# Altium schematic symbol library ArduMan_Components.SchLib: 13 symbols
Pins are listed as number, name and electrical type; pins without a type are passive.

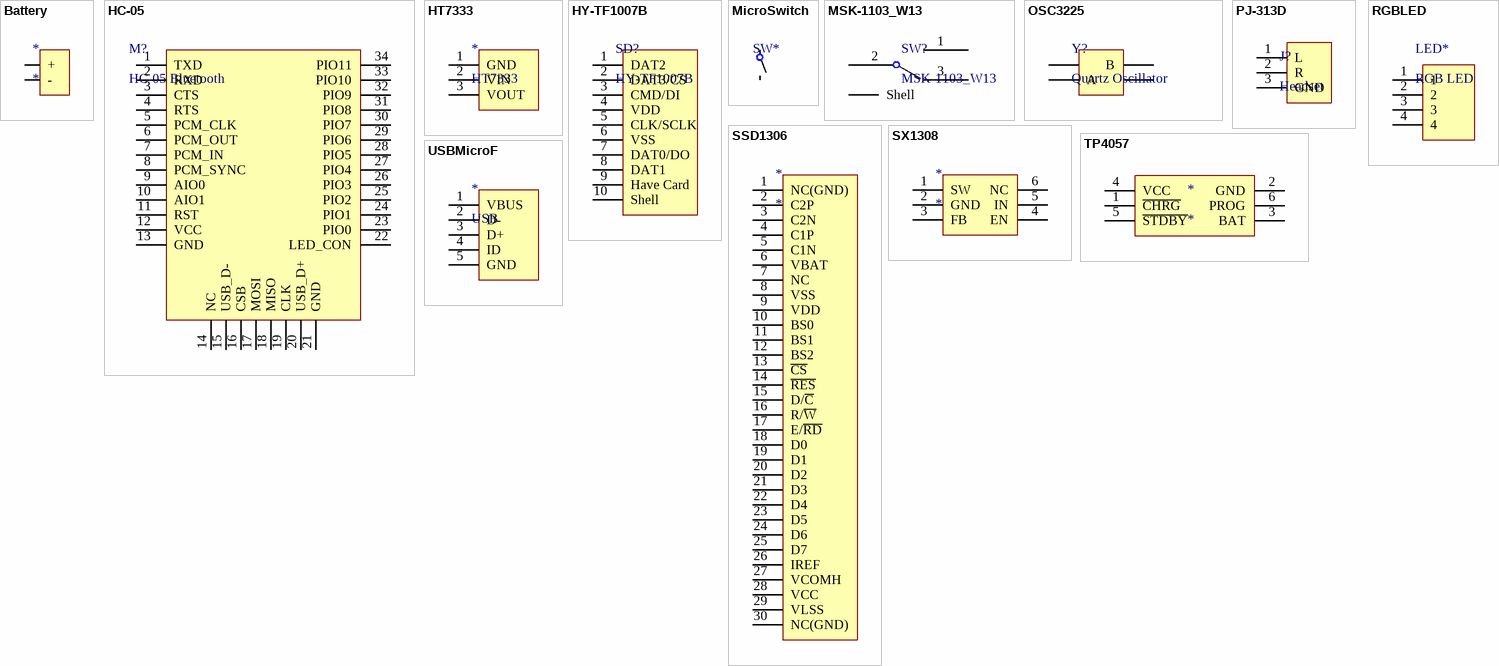
[diagram p0: symbols Battery to USBMicroF]

## Battery
designator *
footprint BAT-2 (Battery; 2 Leads)
pins: 1 + (power), 2 - (power)

## HC-05
designator M?, comment HC-05 Bluetooth
HC-05 Master / Slave Bluetooth Module
footprint HC-XX (HC Series Bluetooth Module)
pins: 1 TXD, 2 RXD, 3 CTS, 4 RTS, 5 PCM_CLK, 6 PCM_OUT, 7 PCM_IN, 8 PCM_SYNC, 9 AIO0, 10 AIO1, 11 RST, 12 VCC, 13 GND, 14 NC, 15 USB_D-, 16 CSB, 17 MOSI, 18 MISO, 19 CLK, 20 USB_D+, 21 GND, 22 LED_CON, 23 PIO0, 24 PIO1, 25 PIO2, 26 PIO3, 27 PIO4, 28 PIO5, 29 PIO6, 30 PIO7, 31 PIO8, 32 PIO9, 33 PIO10, 34 PIO11

## HT7333
designator *
3.3v LDO Regulator
footprint SOT89N (SOT89, 3-Leads, Body 4.5x2.4 mm, Pitch 1.5mm, Lead Span 4.1mm, IPC Medium Density)
pins: 1 GND, 2 VIN, 3 VOUT

## HY-TF1007B
designator SD?
Micro SD Card Slot
footprint HY-TF1007B (Micro SD Card Slot)
pins: 1 DAT2, 2 DAT3/CS, 3 CMD/DI, 4 VDD, 5 CLK/SCLK, 6 VSS, 7 DAT0/DO, 8 DAT1, 9 Have Card, 10 Shell

## MicroSwitch
designator SW*  (value not drawn)
Micro Switch
footprint MICROSWITCH (Micro Switch)
footprint MICROSWITCH-STAND (Micro Switch, Standing)
pins: 1, 2

## MSK-1103_W13
designator SW?
Switch
footprint MSK-1103_W13 (Switch)
pins: 1, 2, 3, 4 Shell

## OSC3225
designator Y?, comment Quartz Oscillator
footprint 3225Quartz_Crystal
pins: 1 A, 2, 3 B, 4

## PJ-313D
designator J?, comment Headset
3.5mm Headset Jack
footprint PJ-313D (Headphone Jack)
footprint PJ-313D-2 (Headphone Jack)
pins: 1 L, 2 R, 3 GND

## RGBLED
designator LED*, comment RGB LED
footprint RGBLED (RGB LED)
pins: 1, 2, 3, 4

## SSD1306
designator *
OLED Controller
footprint SSD1306 (OLED Controller)
pins: 1 NC(GND), 2 C2P, 3 C2N, 4 C1P, 5 C1N, 6 VBAT, 7 NC, 8 VSS, 9 VDD, 10 BS0, 11 BS1, 12 BS2, 13 ~{CS}, 14 ~{RES}, 15 D/~{C}, 16 R/~{W}, 17 E/~{RD}, 18 D0, 19 D1, 20 D2, 21 D3, 22 D4, 23 D5, 24 D6, 25 D7, 26 IREF, 27 VCOMH, 28 VCC, 29 VLSS, 30 NC(GND)

## SX1308
designator *
Boost DC-DC
footprint SOT23-6_N (SOT23, 6-Leads, Body 2.9x1.6mm, Pitch 0.95mm, Lead Span 2.7mm, IPC Medium Density)
pins: 1 SW, 2 GND, 3 FB, 4 EN, 5 IN, 6 NC

## TP4057
designator *
footprint SOT23-6_L (SOT23, 6-Leads, Body 2.9x1.6mm, Pitch 0.95mm, Lead Span 2.7mm, IPC High Density)
pins: 1 ~{CHRG}, 2 GND, 3 BAT, 4 VCC, 5 ~{STDBY}, 6 PROG

## USBMicroF
designator *, comment USB
USB Micro Female Jack
footprint USBMicroF (USB Micro Slot Female)
pins: 1 VBUS (power), 2 D-, 3 D+, 4 ID, 5 GND (power)